# Altium integrated library AOD4184.IntLib: 1 symbol
Pins are listed as number, name and electrical type; pins without a type are passive.

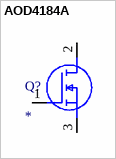
[diagram p0: symbol AOD4184A]

## AOD4184A
designator Q?
MOSFET (N-Channel); Manufacturer_Name: Alpha & Omega Semiconductors; Manufacturer_Part_Number: AOD4184A; Datasheet Link: https://www.arrow.com/en/products/aod4184a/alpha-and-omega-semiconductor; Height: 2.4mm; Arrow Part Number: AOD4184A; Arrow Price/Stock: https://www.arrow.com/en/products/aod4184a/alpha-and-omega-semiconductor
footprint AOD4185
pins: 1 G, 2 D, 3 S